# Altium footprint library PcbLib2.PcbLib: 34 footprints (part 3 of 3)
Each footprint in its own frame and in the unit in brackets; x right, y up, seen from the top. Pads: shape width x height; smd on the part's side, far side on the other; paste and mask are expansions set on the pad; w line width, h text height; cw(c..) or ccw(c..) is an arc to the next point about the centre after c.
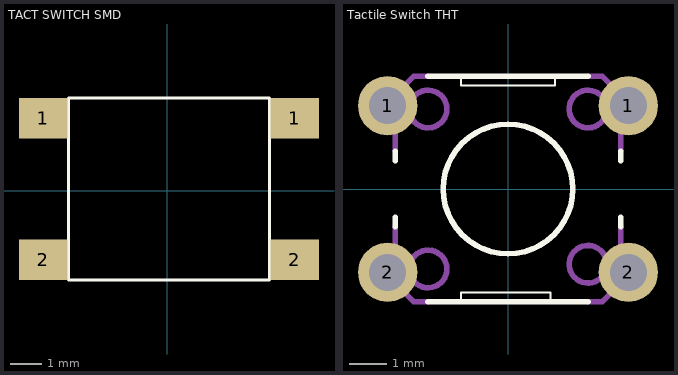
[diagram p2: the footprints below, top view; thin cyan lines are the x and y axes]

## TACT SWITCH SMD [mm]
pads (4):
  rect 1.55x1.3 smd: 1(-3.95,2.3) 1(4.05,2.3) 2(-3.95,-2.2) 2(4.05,-2.2)
Top Overlay:
  lines w0.1: -3.15,-2.85 -3.15,-1.55 -3.15,1.65 -3.15,2.95 3.25,2.95 3.25,1.65 3.25,-1.55 3.25,-2.85 -3.15,-2.85
3D body "User Library-diptronics tactile dts-63k.step": height 7, standoff -3.5, extent -3.9,-3.05 4,3.15

## Tactile Switch THT [mm]
pads (4):
  round 1.6 hole 1: 1(-3.25,2.25) 1(3.25,2.25) 2(-3.25,-2.25) 2(3.25,-2.25)
Top Overlay:
  circle w0.152: c0,0 r1.75
  lines w0.051: -1.27,-3.048 -1.27,-2.794 1.143,-2.794 1.143,-3.048 ; -1.27,3.048 -1.27,2.794 1.27,2.794 1.27,3.048
  lines w0.152: -3.048,-1.016 -3.048,-0.762 ; -3.048,0.762 -3.048,1.016 ; -2.159,-3.048 -1.27,-3.048 1.143,-3.048 2.159,-3.048 ; -2.159,3.048 -1.27,3.048 1.27,3.048 2.159,3.048 ; 3.048,-1.016 3.048,-0.762 ; 3.048,0.762 3.048,1.016
Mechanical 13:
  circle w0.152: c-2.159,2.159 r0.508
  circle w0.152: c2.159,2.159 r0.508
  circle w0.152: c2.159,-2.032 r0.508
  circle w0.152: c-2.159,-2.159 r0.508
  lines w0.152: -3.048,-1.016 -3.048,-2.54 -2.54,-3.048 -2.159,-3.048 ; -3.048,1.016 -3.048,2.54 -2.54,3.048 -2.159,3.048 ; 2.159,-3.048 2.54,-3.048 3.048,-2.54 3.048,-1.016 ; 2.159,3.048 2.54,3.048 3.048,2.54 3.048,1.016
3D body "User Library-diptronics tactile dts-63k.step": height 7, standoff -3.5, extent -3.899,-3.1 4.001,3.1